# Altium schematic symbol library 597-3305-607F.SchLib: 1 symbol
Pins are listed as number, name and electrical type; pins without a type are passive.

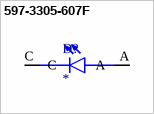
[diagram p0: symbol 597-3305-607F]

## 597-3305-607F
designator D?
LED Uni-Color Green 4-Pin Chip 0805 T/R; MP: 597-3305-607F; Availability: Unavailable; Value: *; Price: None; Package: None
footprint LEDC2012X70N
pins: A, C